# Altium schematic symbol library ICs_Memory.SchLib: 1 symbol
Pins are listed as number, name and electrical type; pins without a type are passive.

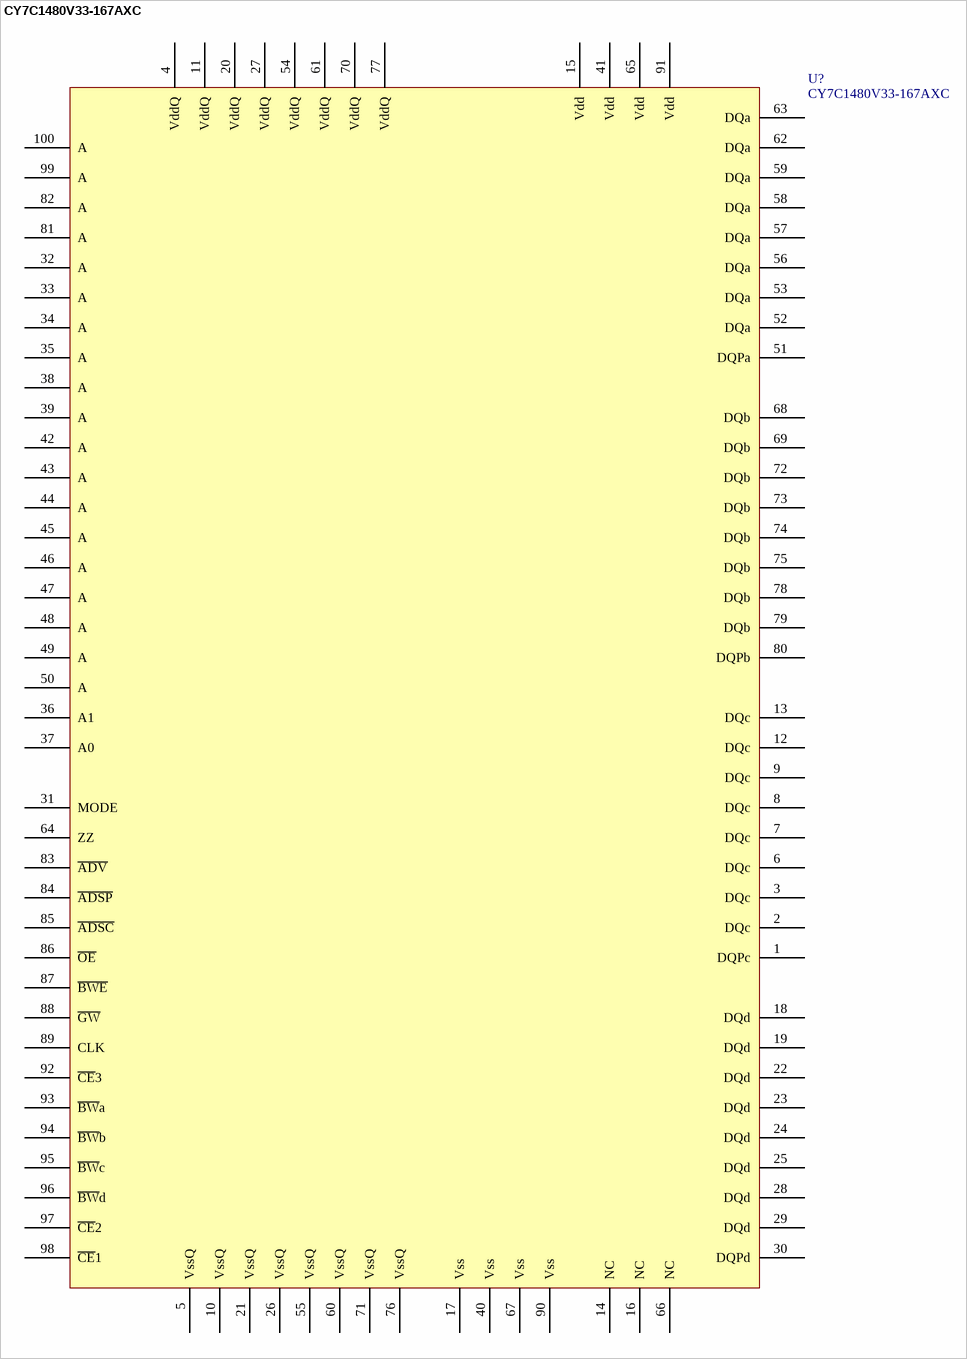
[diagram p0: symbol CY7C1480V33-167AXC]

## CY7C1480V33-167AXC
designator U?
IC SRAM 72MBIT 167MHZ 100TQFP; Manufacturer: Cypress Semiconductor Corp; Format - Memory: RAM; Memory Type: SRAM - Synchronous; Memory Size: 72M (2M x 36); Interface: Parallel; Voltage - Supply: 3.135 V ~ 3.6 V; Supplier 1: Digi-Key; Manufacturer Part Number: CY7C1480V33-167AXC; RoHS: RoHS Compliant; Category: Integrated Circuits (ICs); Stock 1: 124; Pricing 1: 1=143.36, 25=123.2, 100=119.168, 250=116.48 (USD); Packaging: Tray; Speed: 167MHz; Operating Temperature: 0°C ~ 70°C; Package / Case: 100-LQFP; Supplier Device Package: 100-TQFP (14x20); ComponentLink1URL: http://www.cypress.com/?docID=44409; ComponentLink1Description: http://www.cypress.com/?docID=44409; Supplier Part Number 1: 428-2169-ND
footprint TQFP65P1600X2200X140-100N
pins: 1 DQPc, 2 DQc, 3 DQc, 4 VddQ, 5 VssQ, 6 DQc, 7 DQc, 8 DQc, 9 DQc, 10 VssQ, 11 VddQ, 12 DQc, 13 DQc, 14 NC, 15 Vdd, 16 NC, 17 Vss, 18 DQd, 19 DQd, 20 VddQ, 21 VssQ, 22 DQd, 23 DQd, 24 DQd, 25 DQd, 26 VssQ, 27 VddQ, 28 DQd, 29 DQd, 30 DQPd, 31 MODE, 32 A, 33 A, 34 A, 35 A, 36 A1, 37 A0, 38 A, 39 A, 40 Vss, 41 Vdd, 42 A, 43 A, 44 A, 45 A, 46 A, 47 A, 48 A, 49 A, 50 A, 51 DQPa, 52 DQa, 53 DQa, 54 VddQ, 55 VssQ, 56 DQa, 57 DQa, 58 DQa, 59 DQa, 60 VssQ, 61 VddQ, 62 DQa, 63 DQa, 64 ZZ, 65 Vdd, 66 NC, 67 Vss, 68 DQb, 69 DQb, 70 VddQ, 71 VssQ, 72 DQb, 73 DQb, 74 DQb, 75 DQb, 76 VssQ, 77 VddQ, 78 DQb, 79 DQb, 80 DQPb, 81 A, 82 A, 83 ~{ADV}, 84 ~{ADSP}, 85 ~{ADSC}, 86 ~{OE}, 87 ~{BWE}, 88 ~{GW}, 89 CLK, 90 Vss, 91 Vdd, 92 ~{CE}3, 93 ~{BW}a, 94 ~{BW}b, 95 ~{BW}c, 96 ~{BW}d, 97 ~{CE}2, 98 ~{CE}1, 99 A, 100 A